# Altium schematic symbol library Switch,Tactile,SPST-NO,SMD,H5.0.Schlib: 1 symbol
Pins are listed as number, name and electrical type; pins without a type are passive.

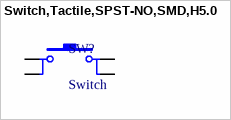
[diagram p0: symbol Switch,Tactile,SPST-NO,SMD,H5.0]

## Switch,Tactile,SPST-NO,SMD,H5.0
designator SW?, comment Switch
Tactile Switch SPST-NO Top Actuated Surface Mount
pins: 1, 2, 3, 4